# Altium footprint library Ceramic DFP.PcbLib: 45 footprints (part 2 of 3)
Each footprint in its own frame and in the unit in brackets; x right, y up, seen from the top. Pads: shape width x height; smd on the part's side, far side on the other; paste and mask are expansions set on the pad; w line width, h text height; cw(c..) or ccw(c..) is an arc to the next point about the centre after c.
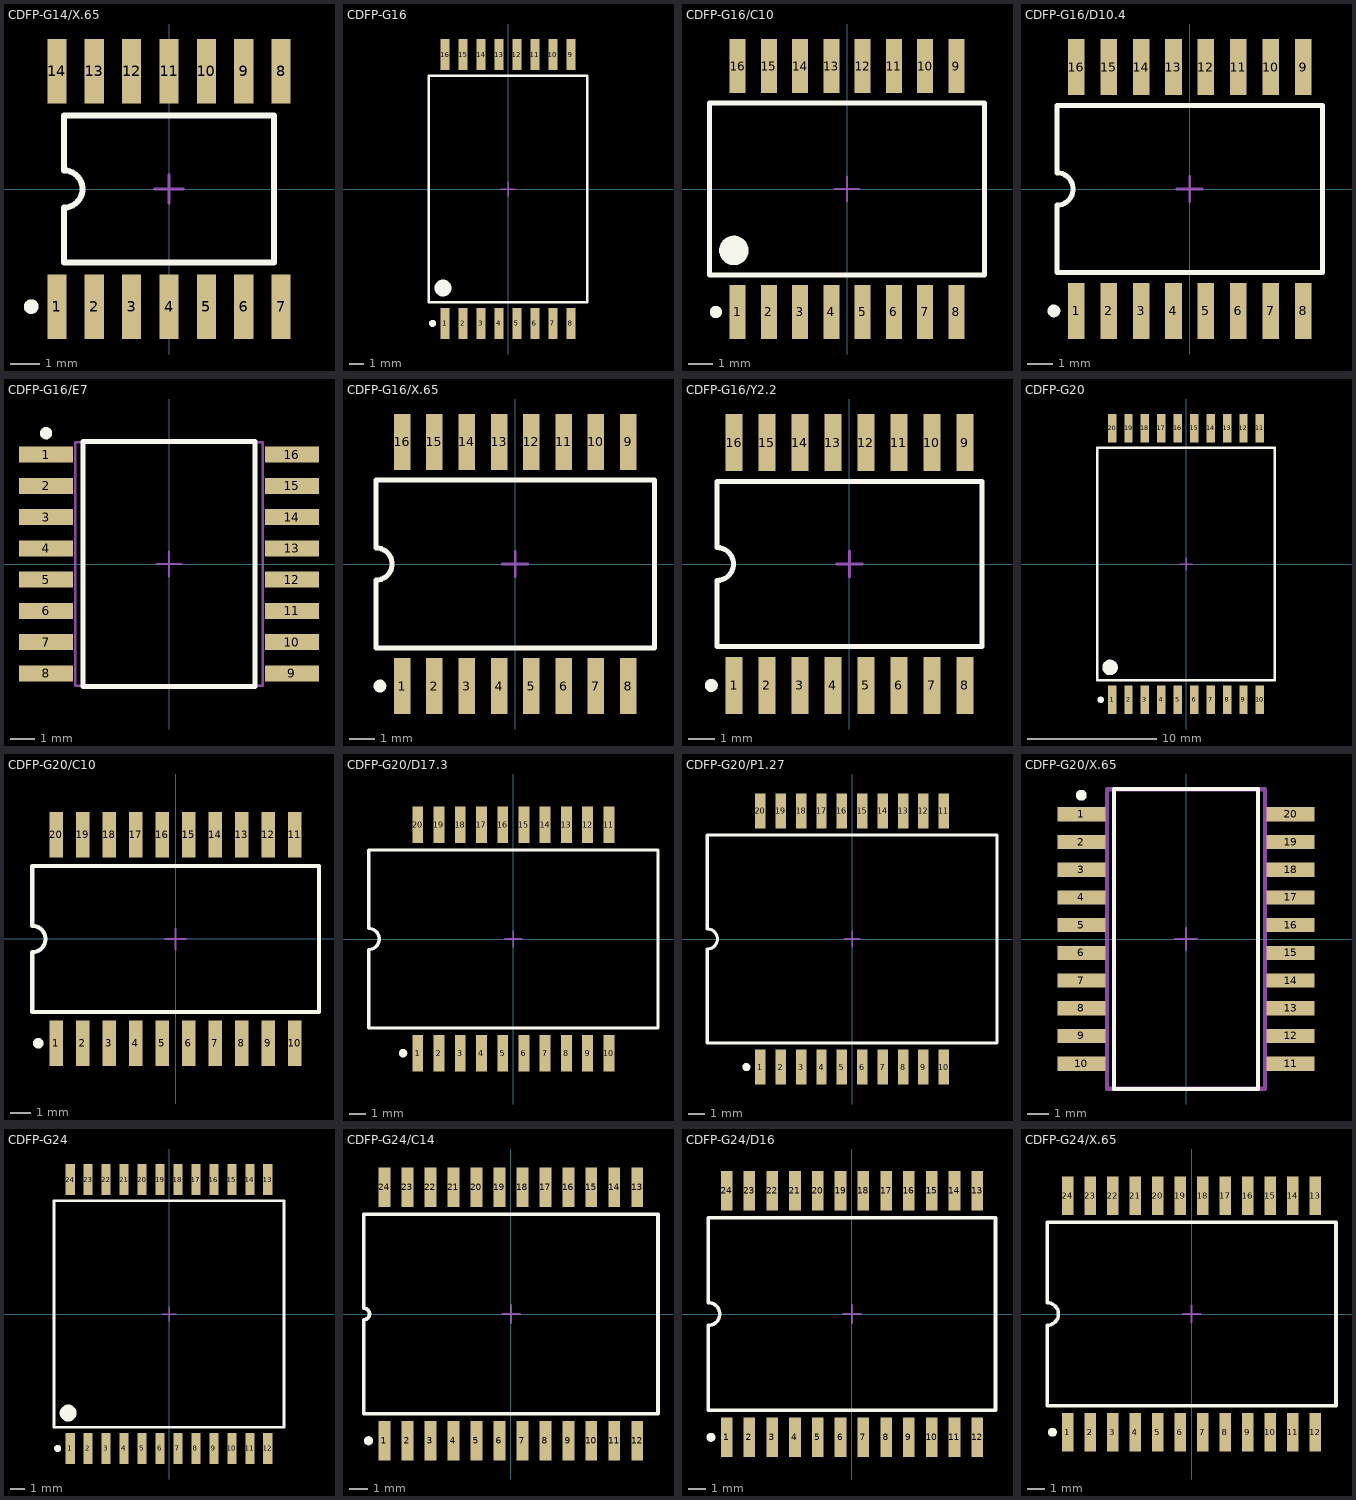
[diagram p1: the footprints below, top view; thin cyan lines are the x and y axes]

## CDFP-G14/X.65 [mm] "DFP; 14 Leads; Body 7.1 x 5.1 mm (LxW max); Pitch 1.27 mm"
height 1.78
pads (14):
  rect 0.65x2.2 smd: 1(-3.81,-4) 2(-2.54,-4) 3(-1.27,-4) 4(0,-4) 5(1.27,-4) 6(2.54,-4) 7(3.81,-4) 8(3.81,4) 9(2.54,4) 10(1.27,4) 11(0,4) 12(-1.27,4) 13(-2.54,4) 14(-3.81,4)
Top Overlay:
  circle w0.25: c-4.685,-4 r0.125
  lines w0.2: -3.575,-2.5 3.575,-2.5 3.575,2.5 -3.575,2.5 -3.575,0.635 cw(c-3.575,0) -3.575,-0.635 -3.575,-2.5
Mechanical 15:
  lines w0.1: -0.5,0 0.5,0 ; 0,-0.5 0,0.5

## CDFP-G16 [mm] "DFP; 16 Leads; Body 11.2 x 15.2 mm (LxW max); Pitch 1.27 mm"
height 2.5
pads (16):
  rect 0.65x2.2 smd: 1(-4.445,-9.5) 2(-3.175,-9.5) 3(-1.905,-9.5) 4(-0.635,-9.5) 5(0.635,-9.5) 6(1.905,-9.5) 7(3.175,-9.5) 8(4.445,-9.5) 9(4.445,9.5) 10(3.175,9.5) 11(1.905,9.5) 12(0.635,9.5) 13(-0.635,9.5) 14(-1.905,9.5) 15(-3.175,9.5) 16(-4.445,9.5)
Top Overlay:
  circle w0.6: c-4.6,-7 r0.3
  circle w0.25: c-5.33,-9.5 r0.125
  lines w0.2: -5.6,-8 5.6,-8 5.6,8 -5.6,8 -5.6,-0.635 -5.6,-8
Mechanical 15:
  lines w0.1: -0.5,0 0.5,0 ; 0,-0.5 0,0.5

## CDFP-G16/C10 [mm] "DFP; 16 Leads; Body 11.2 x 7.6 mm (LxW max); Pitch 1.27 mm"
height 2.5
pads (16):
  rect 0.65x2.2 smd: 1(-4.445,-5) 2(-3.175,-5) 3(-1.905,-5) 4(-0.635,-5) 5(0.635,-5) 6(1.905,-5) 7(3.175,-5) 8(4.445,-5) 9(4.445,5) 10(3.175,5) 11(1.905,5) 12(0.635,5) 13(-0.635,5) 14(-1.905,5) 15(-3.175,5) 16(-4.445,5)
Top Overlay:
  circle w0.6: c-4.6,-2.5 r0.3
  circle w0.25: c-5.33,-5 r0.125
  lines w0.2: -5.6,-3.5 5.6,-3.5 5.6,3.5 -5.6,3.5 -5.6,-0.635 -5.6,-3.5
Mechanical 15:
  lines w0.1: -0.5,0 0.5,0 ; 0,-0.5 0,0.5

## CDFP-G16/D10.4 [mm] "DFP; 16 Leads; Body 10.4 x 7.2 mm (LxW max); Pitch 1.27 mm"
height 1.91
pads (16):
  rect 0.65x2.2 smd: 1(-4.445,-4.775) 2(-3.175,-4.775) 3(-1.905,-4.775) 4(-0.635,-4.775) 5(0.635,-4.775) 6(1.905,-4.775) 7(3.175,-4.775) 8(4.445,-4.775) 9(4.445,4.775) 10(3.175,4.775) 11(1.905,4.775) 12(0.635,4.775) 13(-0.635,4.775) 14(-1.905,4.775) 15(-3.175,4.775) 16(-4.445,4.775)
Top Overlay:
  circle w0.25: c-5.32,-4.775 r0.125
  lines w0.2: -5.2,-3.275 -5.2,-0.635 ccw(c-5.2,0) -5.2,0.635 -5.2,3.275 5.2,3.275 5.2,-3.275 -5.2,-3.275
Mechanical 15:
  lines w0.1: -0.5,0 0.5,0 ; 0,-0.5 0,0.5

## CDFP-G16/E7 [mm] "DFP; 16 Leads; Body 9.9 x 7.6 mm (LxW max); Pitch 1.27 mm"
height 2.04
pads (16):
  rect 2.2x0.65 smd: 1(-5,4.445) 2(-5,3.175) 3(-5,1.905) 4(-5,0.635) 5(-5,-0.635) 6(-5,-1.905) 7(-5,-3.175) 8(-5,-4.445) 9(5,-4.445) 10(5,-3.175) 11(5,-1.905) 12(5,-0.635) 13(5,0.635) 14(5,1.905) 15(5,3.175) 16(5,4.445)
Top Overlay:
  circle w0.25: c-5,5.32 r0.125
  lines w0.2: -3.5,-4.975 -3.5,4.975 3.5,4.975 3.5,-4.975 -3.5,-4.975
Mechanical 13:
  lines w0.1: -3.81,-4.953 3.81,-4.953 3.81,4.953 -3.81,4.953 -3.81,-4.953
Mechanical 15:
  lines w0.1: -0.5,0 0.5,0 ; 0,-0.5 0,0.5
3D body: height 2.04, standoff 0, extent -3.809,-4.952 3.809,4.952

## CDFP-G16/X.65 [mm] "DFP; 16 Leads; Body 10.7 x 7.2 mm (LxW max); Pitch 1.27 mm"
height 2.16
pads (16):
  rect 0.65x2.2 smd: 1(-4.445,-4.8) 2(-3.175,-4.8) 3(-1.905,-4.8) 4(-0.635,-4.8) 5(0.635,-4.8) 6(1.905,-4.8) 7(3.175,-4.8) 8(4.445,-4.8) 9(4.445,4.8) 10(3.175,4.8) 11(1.905,4.8) 12(0.635,4.8) 13(-0.635,4.8) 14(-1.905,4.8) 15(-3.175,4.8) 16(-4.445,4.8)
Top Overlay:
  circle w0.25: c-5.32,-4.8 r0.125
  lines w0.2: -5.475,-3.3 -5.475,-0.635 ccw(c-5.475,0) -5.475,0.635 -5.475,3.3 5.475,3.3 5.475,-3.3 -5.475,-3.3
Mechanical 15:
  lines w0.1: -0.5,0 0.5,0 ; 0,-0.5 0,0.5

## CDFP-G16/Y2.2 [mm] "DFP; 16 Leads; Body 10.2 x 7 mm (LxW max); Pitch 1.27 mm"
height 2.16
pads (16):
  rect 0.65x2.2 smd: 1(-4.445,-4.675) 2(-3.175,-4.675) 3(-1.905,-4.675) 4(-0.635,-4.675) 5(0.635,-4.675) 6(1.905,-4.675) 7(3.175,-4.675) 8(4.445,-4.675) 9(4.445,4.675) 10(3.175,4.675) 11(1.905,4.675) 12(0.635,4.675) 13(-0.635,4.675) 14(-1.905,4.675) 15(-3.175,4.675) 16(-4.445,4.675)
Top Overlay:
  circle w0.25: c-5.32,-4.675 r0.125
  lines w0.2: -5.1,-3.175 5.1,-3.175 5.1,3.175 -5.1,3.175 -5.1,0.635 cw(c-5.1,0) -5.1,-0.635 -5.1,-3.175
Mechanical 15:
  lines w0.1: -0.5,0 0.5,0 ; 0,-0.5 0,0.5

## CDFP-G20 [mm] "DFP; 20 Leads; Body 13.7 x 17.8 mm (LxW max); Pitch 1.27 mm"
height 2.5
pads (20):
  rect 0.65x2.2 smd: 1(-5.715,-10.5) 2(-4.445,-10.5) 3(-3.175,-10.5) 4(-1.905,-10.5) 5(-0.635,-10.5) 6(0.635,-10.5) 7(1.905,-10.5) 8(3.175,-10.5) 9(4.445,-10.5) 10(5.715,-10.5) 11(5.715,10.5) 12(4.445,10.5) 13(3.175,10.5) 14(1.905,10.5) 15(0.635,10.5) 16(-0.635,10.5) 17(-1.905,10.5) 18(-3.175,10.5) 19(-4.445,10.5) 20(-5.715,10.5)
Top Overlay:
  circle w0.25: c-6.6,-10.5 r0.125
  circle w0.6: c-5.875,-8 r0.3
  lines w0.2: -6.875,-9 -6.875,-0.635 -6.875,9 6.875,9 6.875,-9 -6.875,-9
Mechanical 15:
  lines w0.1: -0.5,0 0.5,0 ; 0,-0.5 0,0.5

## CDFP-G20/C10 [mm] "DFP; 20 Leads; Body 13.7 x 10.2 mm (LxW max); Pitch 1.27 mm"
height 2.5
pads (20):
  rect 0.65x2.2 smd: 1(-5.715,-5) 2(-4.445,-5) 3(-3.175,-5) 4(-1.905,-5) 5(-0.635,-5) 6(0.635,-5) 7(1.905,-5) 8(3.175,-5) 9(4.445,-5) 10(5.715,-5) 11(5.715,5) 12(4.445,5) 13(3.175,5) 14(1.905,5) 15(0.635,5) 16(-0.635,5) 17(-1.905,5) 18(-3.175,5) 19(-4.445,5) 20(-5.715,5)
Top Overlay:
  circle w0.25: c-6.59,-5 r0.125
  lines w0.2: -6.875,-3.5 -6.875,-0.635 ccw(c-6.875,0) -6.875,0.635 -6.875,3.5 6.875,3.5 6.875,-3.5 -6.875,-3.5
Mechanical 15:
  lines w0.1: -0.5,0 0.5,0 ; 0,-0.5 0,0.5

## CDFP-G20/D17.3 [mm] "DFP; 20 Leads; Body 17.3 x 9.8 mm (LxW max); Pitch 1.27 mm"
height 2.42
pads (20):
  rect 0.65x2.2 smd: 1(-5.715,-6.825) 2(-4.445,-6.825) 3(-3.175,-6.825) 4(-1.905,-6.825) 5(-0.635,-6.825) 6(0.635,-6.825) 7(1.905,-6.825) 8(3.175,-6.825) 9(4.445,-6.825) 10(5.715,-6.825) 11(5.715,6.825) 12(4.445,6.825) 13(3.175,6.825) 14(1.905,6.825) 15(0.635,6.825) 16(-0.635,6.825) 17(-1.905,6.825) 18(-3.175,6.825) 19(-4.445,6.825) 20(-5.715,6.825)
Top Overlay:
  circle w0.25: c-6.59,-6.825 r0.125
  lines w0.2: -8.65,-0.635 ccw(c-8.65,0) -8.65,0.635 ; -8.65,-0.625 -8.65,-5.325 8.65,-5.325 8.65,5.325 -8.65,5.325 -8.65,0.625
Mechanical 15:
  lines w0.1: -0.5,0 0.5,0 ; 0,-0.5 0,0.5

## CDFP-G20/P1.27 [mm] "DFP; 20 Leads; Body 18 x 12.6 mm (LxW max); Pitch 1.27 mm"
height 2.54
pads (20):
  rect 0.65x2.2 smd: 1(-5.715,-7.975) 2(-4.445,-7.975) 3(-3.175,-7.975) 4(-1.905,-7.975) 5(-0.635,-7.975) 6(0.635,-7.975) 7(1.905,-7.975) 8(3.175,-7.975) 9(4.445,-7.975) 10(5.715,-7.975) 11(5.715,7.975) 12(4.445,7.975) 13(3.175,7.975) 14(1.905,7.975) 15(0.635,7.975) 16(-0.635,7.975) 17(-1.905,7.975) 18(-3.175,7.975) 19(-4.445,7.975) 20(-5.715,7.975)
Top Overlay:
  circle w0.25: c-6.59,-7.975 r0.125
  lines w0.2: -9.025,-6.475 9.025,-6.475 9.025,6.475 -9.025,6.475 -9.025,0.635 cw(c-9.025,0) -9.025,-0.635 -9.025,-6.475
Mechanical 15:
  lines w0.1: -0.5,0 0.5,0 ; 0,-0.5 0,0.5

## CDFP-G20/X.65 [mm] "DFP; 20 Leads; Body 13.7 x 7.2 mm (LxW max); Pitch 1.27 mm"
height 2.29
pads (20):
  rect 2.2x0.65 smd: 1(-4.8,5.715) 2(-4.8,4.445) 3(-4.8,3.175) 4(-4.8,1.905) 5(-4.8,0.635) 6(-4.8,-0.635) 7(-4.8,-1.905) 8(-4.8,-3.175) 9(-4.8,-4.445) 10(-4.8,-5.715) 11(4.8,-5.715) 12(4.8,-4.445) 13(4.8,-3.175) 14(4.8,-1.905) 15(4.8,-0.635) 16(4.8,0.635) 17(4.8,1.905) 18(4.8,3.175) 19(4.8,4.445) 20(4.8,5.715)
Top Overlay:
  circle w0.25: c-4.8,6.59 r0.125
  lines w0.2: -3.3,-6.875 -3.3,6.875 3.3,6.875 3.3,-6.875 -3.3,-6.875
Mechanical 13:
  lines w0.2: -3.619,-6.858 -3.619,6.858 3.619,6.858 3.619,-6.858 -3.619,-6.858
Mechanical 15:
  lines w0.1: -0.5,0 0.5,0 ; 0,-0.5 0,0.5
3D body: height 2.29, standoff 0, extent -3.619,-6.857 3.619,6.857

## CDFP-G24 [mm] "DFP; 24 Leads; Body 16.3 x 15.2 mm (LxW max); Pitch 1.27 mm"
height 2.5
pads (24):
  rect 0.65x2.2 smd: 1(-6.985,-9.5) 2(-5.715,-9.5) 3(-4.445,-9.5) 4(-3.175,-9.5) 5(-1.905,-9.5) 6(-0.635,-9.5) 7(0.635,-9.5) 8(1.905,-9.5) 9(3.175,-9.5) 10(4.445,-9.5) 11(5.715,-9.5) 12(6.985,-9.5) 13(6.985,9.5) 14(5.715,9.5) 15(4.445,9.5) 16(3.175,9.5) 17(1.905,9.5) 18(0.635,9.5) 19(-0.635,9.5) 20(-1.905,9.5) 21(-3.175,9.5) 22(-4.445,9.5) 23(-5.715,9.5) 24(-6.985,9.5)
Top Overlay:
  circle w0.25: c-7.87,-9.5 r0.125
  circle w0.6: c-7.125,-7 r0.3
  lines w0.2: -8.125,-8 -8.125,-0.635 -8.125,8 8.125,8 8.125,-8 -8.125,-8
Mechanical 15:
  lines w0.1: -0.5,0 0.5,0 ; 0,-0.5 0,0.5

## CDFP-G24/C14 [mm] "DFP; 24 Leads; Body 15.7 x 10.2 mm (LxW max); Pitch 1.27 mm"
height 2.29
pads (24):
  rect 0.65x2.2 smd: 1(-6.985,-7) 2(-5.715,-7) 3(-4.445,-7) 4(-3.175,-7) 5(-1.905,-7) 6(-0.635,-7) 7(0.635,-7) 8(1.905,-7) 9(3.175,-7) 10(4.445,-7) 11(5.715,-7) 12(6.985,-7) 13(6.985,7) 14(5.715,7) 15(4.445,7) 16(3.175,7) 17(1.905,7) 18(0.635,7) 19(-0.635,7) 20(-1.905,7) 21(-3.175,7) 22(-4.445,7) 23(-5.715,7) 24(-6.985,7)
Top Overlay:
  circle w0.25: c-7.86,-7 r0.125
  lines w0.2: -8.125,-5.5 8.125,-5.5 8.125,5.5 -8.125,5.5 -8.125,0.318 cw(c-8.125,0) -8.125,-0.318 -8.125,-5.5
Mechanical 15:
  lines w0.1: -0.5,0 0.5,0 ; 0,-0.5 0,0.5

## CDFP-G24/D16 [mm] "DFP; 24 Leads; Body 16 x 9.9 mm (LxW max); Pitch 1.27 mm"
height 2.29
pads (24):
  rect 0.65x2.2 smd: 1(-6.985,-6.875) 2(-5.715,-6.875) 3(-4.445,-6.875) 4(-3.175,-6.875) 5(-1.905,-6.875) 6(-0.635,-6.875) 7(0.635,-6.875) 8(1.905,-6.875) 9(3.175,-6.875) 10(4.445,-6.875) 11(5.715,-6.875) 12(6.985,-6.875) 13(6.985,6.875) 14(5.715,6.875) 15(4.445,6.875) 16(3.175,6.875) 17(1.905,6.875) 18(0.635,6.875) 19(-0.635,6.875) 20(-1.905,6.875) 21(-3.175,6.875) 22(-4.445,6.875) 23(-5.715,6.875) 24(-6.985,6.875)
Top Overlay:
  circle w0.25: c-7.86,-6.875 r0.125
  lines w0.2: -8,-5.375 8,-5.375 8,5.375 -8,5.375 -8,0.635 cw(c-8,0) -8,-0.635 -8,-5.375
Mechanical 15:
  lines w0.1: -0.5,0 0.5,0 ; 0,-0.5 0,0.5

## CDFP-G24/X.65 [mm] "DFP; 24 Leads; Body 16.3 x 9.5 mm (LxW max); Pitch 1.27 mm"
height 2.29
pads (24):
  rect 0.65x2.2 smd: 1(-6.985,-6.675) 2(-5.715,-6.675) 3(-4.445,-6.675) 4(-3.175,-6.675) 5(-1.905,-6.675) 6(-0.635,-6.675) 7(0.635,-6.675) 8(1.905,-6.675) 9(3.175,-6.675) 10(4.445,-6.675) 11(5.715,-6.675) 12(6.985,-6.675) 13(6.985,6.675) 14(5.715,6.675) 15(4.445,6.675) 16(3.175,6.675) 17(1.905,6.675) 18(0.635,6.675) 19(-0.635,6.675) 20(-1.905,6.675) 21(-3.175,6.675) 22(-4.445,6.675) 23(-5.715,6.675) 24(-6.985,6.675)
Top Overlay:
  circle w0.25: c-7.86,-6.675 r0.125
  lines w0.2: -8.15,-5.175 8.15,-5.175 8.15,5.175 -8.15,5.175 -8.15,0.635 cw(c-8.15,0) -8.15,-0.635 -8.15,-5.175
Mechanical 15:
  lines w0.1: -0.5,0 0.5,0 ; 0,-0.5 0,0.5